# Altium schematic symbol library aiskylab-14Connectors-20TestAndMechenical.SchLib: 9 symbols
Pins are listed as number, name and electrical type; pins without a type are passive.

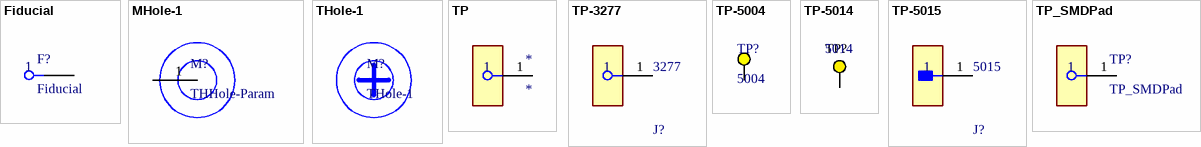
[diagram p0: symbols Fiducial to TP_SMDPad]

## Fiducial
designator F?
footprint FIDUCIAL_TOP_C100-200 (Round Fiducial Target, Top Layer, 1.0mm, Top Solder 2.0mm, Keepout =2.0mm)
pins: 1

## MHole-1
designator M?, comment THHole-Param
金属化可接地固定孔
footprint MTG240_400 (Plated Through Hole: Hole Dia.=2.4mm Pad Dia.=4.0mm)
footprint MTG270_500 (Plated Through Hole: Hole Dia.=2.7mm Pad Dia.=5.0mm)
footprint MTG300_600 (Plated Through Hole: Hole Dia.=3.0mm Pad Dia.=6.0mm)
footprint MTG300_700 (Plated Through Hole: Hole Dia.=3.0mm Pad Dia.=7.0mm)
footprint MTG300_900 (Plated Through Hole: Hole Dia.=3.0mm Pad Dia.=9.0mm)
footprint MTG320_550 (Plated Through Hole: Hole Dia.=3.2mm Pad Dia.=5.5mm)
footprint MTG320_1050 (Plated Through Hole: Hole Dia.=3.2mm Pad Dia.=10.5mm)
footprint MTG350_650 (Plated Through Hole: Hole Dia.=3.5mm Pad Dia.=6.5mm)
footprint MTG370_700 (Plated Through Hole: Hole Dia.=3.7mm Pad Dia.=7.0mm)
footprint MTG370_800 (Plated Through Hole: Hole Dia.=3.7mm Pad Dia.=8.0mm)
footprint MTG370_1100 (Plated Through Hole: Hole Dia.=3.7mm Pad Dia.=11.0mm)
footprint MTG420_550 (Plated Through Hole: Hole Dia.=4.2mm Pad Dia.=5.5mm)
footprint MTG440_900 (Plated Through Hole: Hole Dia.=4.4mm Pad Dia.=9.0mm)
footprint MTG440_900 (Plated Through Hole: Hole Dia.=4.4mm Pad Dia.=9.0mm)
footprint MTG500_R1500X1500 (Plated Through Hole: Hole Dia.=0.5mm Square Pad 1.5mm x 1.5mm)
footprint MTG520_900 (Plated Through Hole: Hole Dia.=5.2mm Pad Dia.=9.0mm)
footprint MTG660_1200 (Plated Through Hole: Hole Dia.=6.6mm Pad Dia.=12.0mm)
footprint MTG850_1050 (Plated Through Hole: Hole Dia.=8.5mm Pad Dia.=10.5mm)
footprint MTGP720H320V6P
footprint MTGP850H500V6P (Plated Through Hole: Hole Dia.=5mm Pad Dia.=8.5mm + 6 Via Dia.=0.5mm)
footprint MTGP900H440V6P (Plated Through Hole: Hole Dia.=4.4mm Pad Dia.=9mm + 6 Via Dia.=0.5mm)
footprint MTGP900H520V6P (Plated Through Hole: Hole Dia.=4.4mm Pad Dia.=9mm + 6 Via Dia.=0.5mm)
footprint MTG260_400 (Plated Through Hole: Hole Dia.=2.6mm Pad Dia.=4.0mm)
pins: 1

## THole-1
designator M?
非金属化固定孔
footprint THole-210

## TP
designator *
footprint TP
pins: 1

## TP-3277
designator J?, comment 3277
Miniature Rivet Type Banana Jack With Turret for 1/16” Thick Panel; Manufacturer: Pomona; Conn Orientation: Vertical; Number Of Contacts: 1; Is Female: yes; Voltage Rating: 1500V; Current Rating: 5A; Category: Conn; Octopart: https://octopart.com/3277-pomona+electronics-39493074; Device Class L3: unset; Lead Free: Yes; Device Class L1: Connectors; Automotive: No; RoHS: TRUE; Package: 3277; ComponentLink2Description: Datasheet; Height: 2.67mm; Device Class L2: unset; ComponentLink2URL: https://forum.upverter.com/uploads/short-url/pHPVWKfQYKvuWzQhrohe5FVySBI.pdf; Manufacturer Part Number: 3277
footprint FP-3277-MFG
pins: 1

## TP-5004
designator TP?, comment 5004
Test Point, Yellow, 1-Pin THD, RoHS, Bulk; Manufacturer: Keystone; Package Description: 1-Pin Through Hole Device, Dia 2.54 mm; Manufacturer URL: http://www.keyelco.com/; Datasheet Version: Rev. G, 12/2008; Package Reference: 5004; Datasheet URL: http://www.keyelco.com/product-pdf.cfm?p=1313; Mounting Technology: ThroughHole
footprint KSTN-5004 (Test Point, Through Hole, Dia 2.54mm)
pins: 1

## TP-5014
designator TP?, comment 5014
Test Point, Yellow, Through Hole, RoHS, Bulk; Manufacturer: Keystone; PackageDescription: 1-Pin Through Hole Device, Dia 3.17 mm; REACH SVHC: No SVHC; ComponentLink2Description: Datasheet; ComponentLink2URL: http://www.keyelco.com/product-pdf.cfm?p=1323; Package Quantity: 100; Colour: Yellow; Height: 8.12 mm; RoHSCompliant: true; Contact Material: Bronze; Mount: Through Hole; Contact Plating: Silver; ComponentLink1URL: http://www.keyelco.com/; Packaging: Bulk; Mounting Technology: Through Hole; PackageReference: 5014; ComponentLink1Description: Manufacturer URL; DatasheetVersion: Rev. F, 12/2013
footprint KSTN-5014_V (Test Point, Dia 3.17mm)
pins: 1

## TP-5015
designator J?, comment 5015
PC TEST POINT MINIATURE; Manufacturer: keystone; Number Of Contacts: 1; Conn Orientation: Straight; Category: Conn; Manufacturer Part Number: 5015; Digikey Description: PC TEST POINT MINIATURE; Automotive: No; Lead Free: Yes; Octopart: https://octopart.com/5015-keystone-3822; ComponentLink2URL: http://www.keyelco.com/product-pdf.cfm?p=1353; Package: 5015; RoHS: TRUE; Device Class L3: unset; Device Class L2: unset; Contact Material: Silver; Device Class L1: Connectors; Height: 1.65mm; ComponentLink2Description: Datasheet
footprint FP-5015-MFG
pins: 1

## TP_SMDPad
designator TP?
footprint FP-5015-MFG
pins: 1